# Altium schematic symbol library Motherboard.SchLib: 9 symbols
Pins are listed as number, name and electrical type; pins without a type are passive.

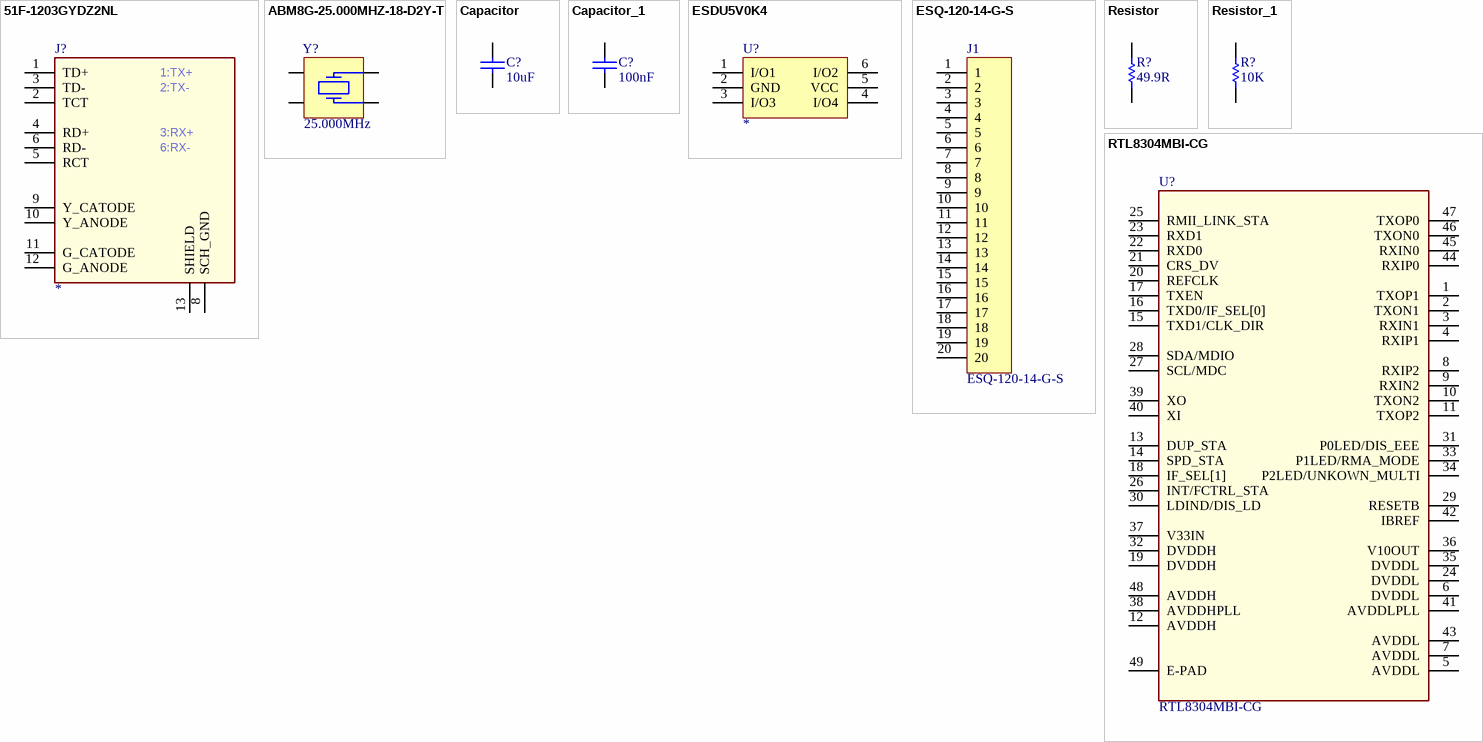
[diagram p0: symbols 51F-1203GYDZ2NL to RTL8304MBI-CG]

## 51F-1203GYDZ2NL
designator J?
CONN MAGJACK 1PORT SHLD 1000BT; Manufacturer: Bel Fuse Inc; Manufacturer Part Number: L829-1J1T-43; Connector Type: RJ45; Number of Ports: 1; Speed: 10/100/1000 Base-T; LED Color: Green, Orange - Yellow; Number of Cores per Jack: 8; Shielding: Shielded; Tab Direction: Up; .Checked PCB: RF; Supplier 1: Digi-Key; RoHS: RoHS Compliant; Category: Connectors, Interconnects; Stock 1: 7172; Pricing 1: 1=4.67, 10=3.863, 100=2.8974, 250=2.672, 500=2.41446, 1000=2.14082, 2500=2.05229, 5000=2.01205 (GBP); Number of Rows: 1; Mounting Type: Panel Mount; Through Hole, Right Angle; Height Above Board: 0.445" (11.30mm); Features: AutoMDIX, Board Guide; Packaging: Tray; ComponentLink1URL: http://www.belfuse.com/Data/Datasheets/L829-1J1T-43.pdf; ComponentLink1Description: http://www.belfuse.com/Data/Datasheets/L829-1J1T-43.pdf; Supplier Part Number 1: 380-1110-ND; .Checked SCH: RF; Value: *
footprint L829-1J1T-43
pins: 1 TD+, 2 TCT, 3 TD-, 4 RD+, 5 RCT, 6 RD-, 8 SCH_GND, 9 Y_CATODE, 10 Y_ANODE, 11 G_CATODE, 12 G_ANODE, 13 SHIELD
text: 1:TX+; 2:TX-; 3:RX+; 6:RX-

## ABM8G-25.000MHZ-18-D2Y-T
designator Y?, comment 25.000MHz
CRYSTAL 25MHZ 18PF SMD; Manufacturer: Abracon Corporation; Manufacturer Part Number: ABM8G-25.000MHZ-18-D2Y-T; Frequency Stability: ±30ppm; Frequency Tolerance: ±20ppm; ESR (Equivalent Series Resistance): 60 Ohm; Operating Mode: Fundamental; .Checked PCB: MM; Supplier 1: Digi-Key; RoHS: RoHS Compliant; Category: Crystals and Oscillators; Stock 1: 25549; Pricing 1: 1=1.06, 10=0.944, 50=0.8814, 100=0.78, 500=0.7371 (USD); Packaging: Cut Tape (CT); Type: MHz Crystal; Frequency: 25MHz; Load Capacitance: 18pF; Operating Temperature: -40°C ~ 85°C; Ratings: -; Mounting Type: Surface Mount; Package / Case: 4-SMD, No Lead (DFN, LCC); Size / Dimension: 0.126" L x 0.098" W (3.20mm x 2.50mm); Height: 0.039" (1.00mm); ComponentLink1URL: http://www.abracon.com/Resonators/ABM8G.pdf; ComponentLink1Description: http://www.abracon.com/Resonators/ABM8G.pdf; Supplier Part Number 1: 535-10275-1-ND; .Checked SCH: MM; .Creator: MM
footprint ABM8G (Creator MM)
pins: 1, 2, 3, 4

## Capacitor
designator C?  value 10uF  (hidden comment: Capacitor)
Capacitor, MLCC, 10µF, 10V, X5R, 10%, 0603, T=0.8mm; Internal_Part_Number: MCD-01124; Manufacturer_Part_Number: GRM188R61A106KAAL; Manufacturer: MURATA; Provided_By: SUBCO; ECCN_US: EAR99; ECCN_EU: NEC; Status: Released; Part_Type: Capacitor; Package: C0603; ComponentLink1Description: Datasheet; ComponentLink1URL: http://tunmcdsvn.tun.st.com/Component_Datasheet_Library/Trunk/Capacitors/Murata_Capacitor_GR_series
footprint C0603
pins: 1, 2

## Capacitor_1
designator C?, comment value 100nF  (hidden comment: Capacitor)
Capacitor, MLCC, 100nF, 6V3, X5R, 10%, 0603, T=0,8mm; Internal_Part_Number: MCD-00237; Manufacturer_Part_Number: CC0603KRX5R5BB104; Manufacturer: YAGEO; Provided_By: SUBCO; ECCN_US: EAR99; ECCN_EU: NEC; Status: Released; Part_Type: Capacitor; Package: C0603; ComponentLink1Description: Datasheet; ComponentLink1URL: http://tunmcdsvn.tun.st.com/Component_Datasheet_Library/Trunk/Capacitors/Yageo_Multilayer_capacitor_X5R_series_100pF_to_100uF
footprint C0603
pins: 1, 2

## ESDU5V0K4
designator U?
Very low capacitance ESD protection , 4 lines; Internal_Part_Number: MCD-00250; Part_Type: IC; Manufacturer_Part_Number: USBLC6-4SC6; Manufacturer: STMICROELECTRONICS; BMS_Part_Number: 9151001; Provided_By: SUBCO with ST control; ECCN_US: EAR99; ECCN_EU: NEC; Status: Released; ComponentLink1Description: Datasheet; ComponentLink1URL: http://tunmcdsvn.tun.st.com/Component_Datasheet_Library/Trunk/Diodes/STM_ESD_USBLC6-4SC6; Value: *
footprint ESD_SOT23-6L
pins: 1 I/O1, 2 GND, 3 I/O3, 4 I/O4, 5 VCC, 6 I/O2

## ESQ-120-14-G-S
designator J1
CONN RCPT 20POS .100" DUAL GOLD; Manufacturer: Samtec Inc.; Connector Type: Receptacle; Number of Positions: 20; Number of Positions Loaded: All; Pitch: 0.100" (2.54mm); .Creator: MM; .Checked PCB: MM, paper model not checked; Supplier 1: Digi-Key; Manufacturer Part Number: ESQ-120-14-G-S; RoHS: RoHS Compliant; Category: Connectors, Interconnects; Stock 1: 0; Pricing 1: 1=5.67 (USD); Packaging: Tube; Contact Type: Female Socket; Number of Rows: 1; Row Spacing: -; Mounting Type: Through Hole; Termination: Solder; Fastening Type: -; Features: -; Contact Finish: Gold; Contact Finish Thickness: 20µin (0.51µm); Color: Black; ComponentLink1URL: http://suddendocs.samtec.com/prints/esq-1xx-xx-x-x-xxx-xx-x-xx-mkt.pdf; ComponentLink1Description: http://suddendocs.samtec.com/prints/esq-1xx-xx-x-x-xxx-xx-x-xx-mkt.pdf; Supplier Part Number 1: ESQ-120-14-G-S-ND; .Checked SCH: MM
footprint ESQ-120-14-G-S (Creator MM)
pins: 1, 2, 3, 4, 5, 6, 7, 8, 9, 10, 11, 12, 13, 14, 15, 16, 17, 18, 19, 20

## Resistor
designator R?  value 49.9R  (hidden comment: Resistor)
Resistor,49R9,0402,1%,1/16W; Internal_Part_Number: MCD-00565; Manufacturer_Part_Number: RC0402FR-0749R9L; Manufacturer: YAGEO; Provided_By: SUBCO; ECCN_US: EAR99; ECCN_EU: NEC; Status: Released; Part_Type: Resistor; Package: R0402; ComponentLink1Description: Datasheet; ComponentLink1URL: http://tunmcdsvn.tun.st.com/Component_Datasheet_Library/Trunk/Resistors/Yageo_Resistor_RC0402-series
footprint R0402
pins: 1, 2

## Resistor_1
designator R?, comment value 10K  (hidden comment: Resistor)
Resistor,10K,0402,1%,1/16W; Internal_Part_Number: MCD-00053; Manufacturer_Part_Number: RC0402FR-0710KL; Manufacturer: YAGEO; Provided_By: SUBCO; ECCN_US: EAR99; ECCN_EU: NEC; Status: Released; Part_Type: Resistor; Package: R0402; ComponentLink1Description: Datasheet; ComponentLink1URL: http://tunmcdsvn.tun.st.com/Component_Datasheet_Library/Trunk/Resistors/Yageo_Resistor_RC0402-series
footprint R0402
pins: 1, 2

## RTL8304MBI-CG
designator U?
SINGLE-CHIP 4-PORT 10/100M ETHERNET SWITCH CONTROLLER; Manufacturer: REALTEK; Number of Drivers/Receivers: 4/4; Duplex: Full; Voltage - Supply: 1.8V, 2.5V, 3.3V; .Creator: MM; Supplier 1: Digi-Key; RoHS: RoHS Compliant; Category: Integrated Circuits (ICs); Stock 1: 1755; Packaging: Tray; Type: Transceiver; Protocol: Ethernet; Receiver Hysteresis: -; Data Rate: -; Operating Temperature: -40°C ~ 85°C; Mounting Type: Surface Mount; Package / Case: 48-VFQFN Exposed Pad; Supplier Device Package: 48-QFN (7x7); ComponentLink1Description: datasheet; .Checked PCB: MM; .Checked SCH: MM; Value: RTL8304MBI-CG
footprint QFN48_SMALL_EP_7MMX7MM (Creator MM)
pins: 1 TXOP1, 2 TXON1, 3 RXIN1, 4 RXIP1, 5 AVDDL, 6 DVDDL, 7 AVDDL, 8 RXIP2, 9 RXIN2, 10 TXON2, 11 TXOP2, 12 AVDDH, 13 DUP_STA, 14 SPD_STA, 15 TXD1/CLK_DIR, 16 TXD0/IF_SEL[0], 17 TXEN, 18 IF_SEL[1], 19 DVDDH, 20 REFCLK, 21 CRS_DV, 22 RXD0, 23 RXD1, 24 DVDDL, 25 RMII_LINK_STA, 26 INT/FCTRL_STA, 27 SCL/MDC, 28 SDA/MDIO, 29 RESETB, 30 LDIND/DIS_LD, 31 P0LED/DIS_EEE, 32 DVDDH, 33 P1LED/RMA_MODE, 34 P2LED/UNKOWN_MULTI, 35 DVDDL, 36 V10OUT, 37 V33IN, 38 AVDDHPLL, 39 XO, 40 XI, 41 AVDDLPLL, 42 IBREF, 43 AVDDL, 44 RXIP0, 45 RXIN0, 46 TXON0, 47 TXOP0, 48 AVDDH, 49 E-PAD